# Altium footprint library node.PcbLib: 75 footprints (part 5 of 5)
Each footprint in its own frame and in the unit in brackets; x right, y up, seen from the top. Pads: shape width x height; smd on the part's side, far side on the other; paste and mask are expansions set on the pad; w line width, h text height; cw(c..) or ccw(c..) is an arc to the next point about the centre after c.
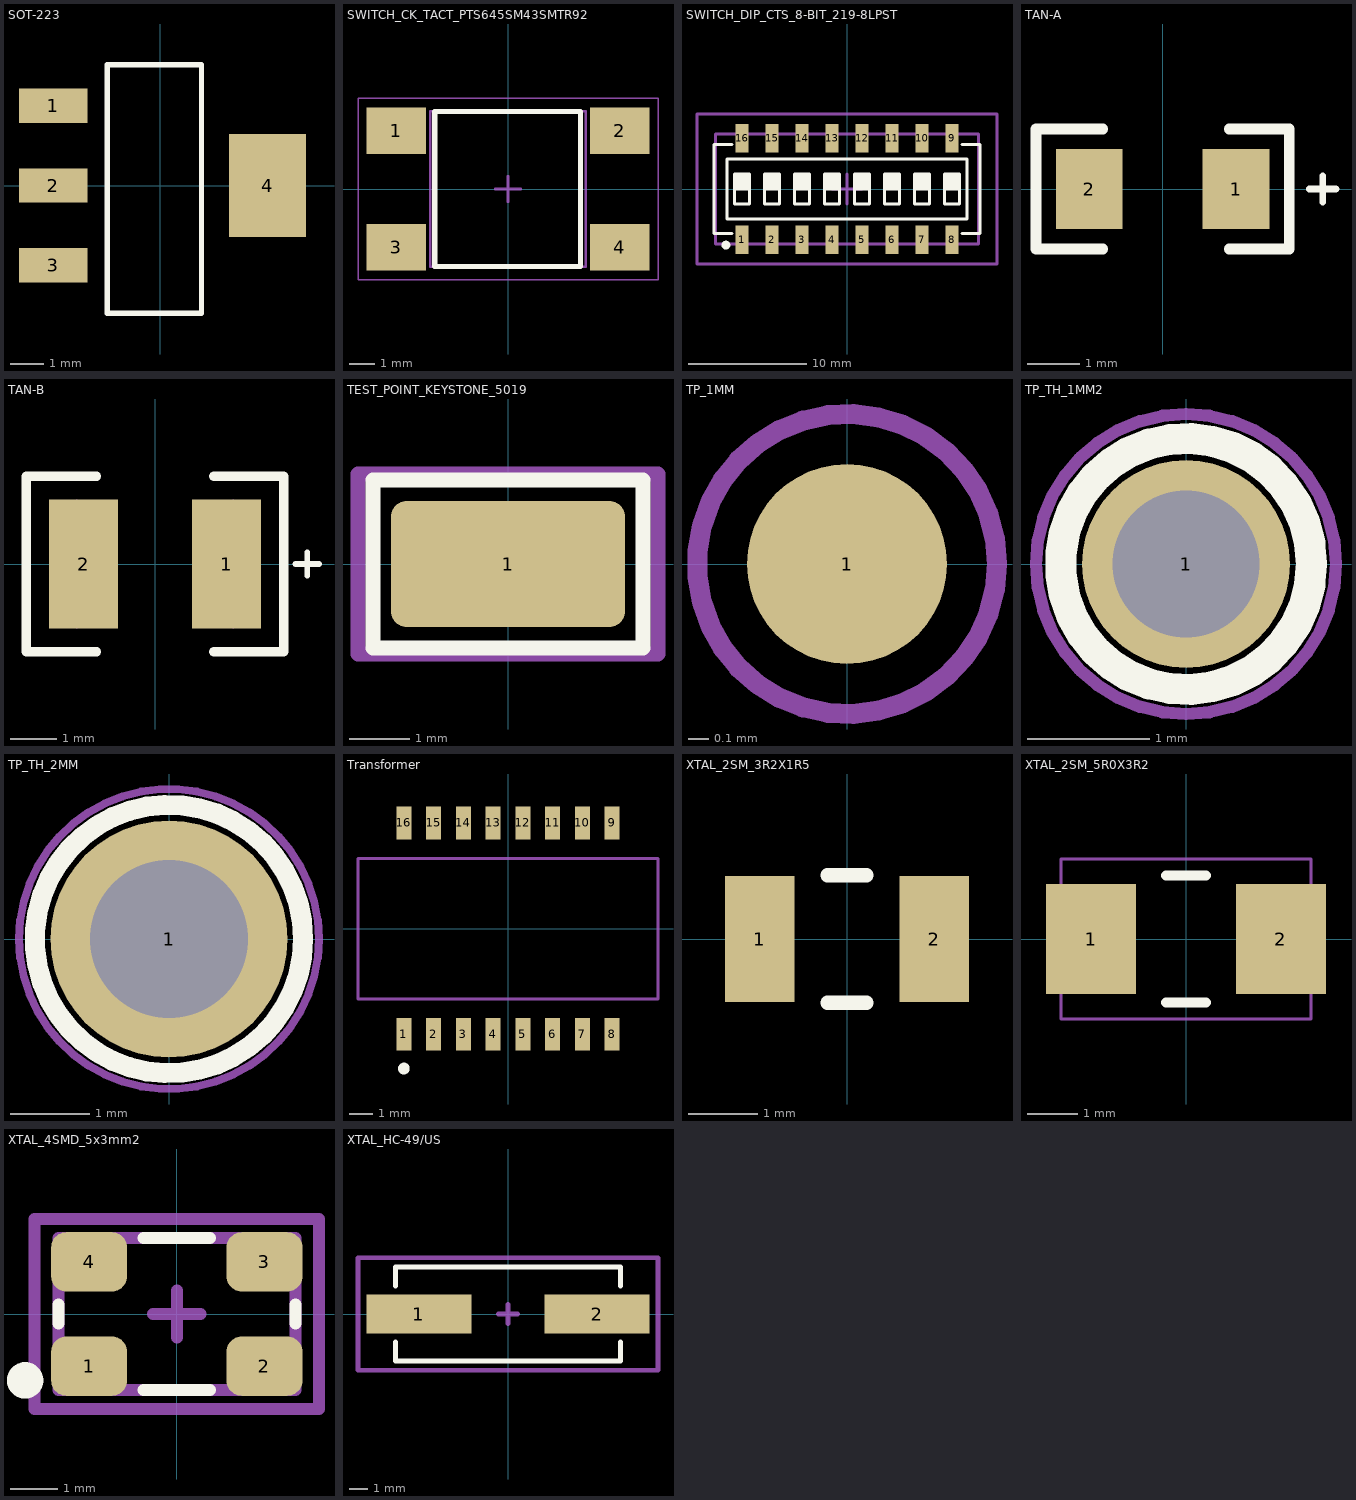
[diagram p4: the footprints below, top view; thin cyan lines are the x and y axes]

## SOT-223 [mil] "Adjustable and fixed low drop positive voltage regulator"
height 70.87
pads (4):
  rect 80x40 smd: 1(-125,93) 2(-125,0) 3(-125,-93)
  rect 90x120 smd: 4(125,0)
Top Overlay:
  lines w6: -62,-149 48,-149 48,141 -62,141 -62,-149
3D body: height 70.87, standoff 7.87, extent -83.66,-131.89 62.01,131.89

## SWITCH_CK_TACT_PTS645SM43SMTR92 [mm] "Surface Mounting Type Tact Switch, 4-Leads, Body 6x6mm, Height 4.5mm,Blue"
height 4.5
pads (4):
  rect 2.3x1.8 smd: 1(-4.325,2.25) 2(4.325,2.25) 3(-4.325,-2.25) 4(4.325,-2.25)
Top Overlay:
  lines w0.2: -2.831,-3 2.808,-3 2.808,3 -2.831,3 -2.831,-3
M13 (3D Body):
  lines w0.1: -3,-3 -3,3 3,3 3,-3 -3,-3
M15 (Courtyard):
  lines w0.05: -5.8,-3.5 5.8,-3.5 5.8,3.5 -5.8,3.5 -5.8,-3.5
  lines w0.1: -0.5,0 0.5,0 ; 0,-0.5 0,0.5
3D body: height 3.9, standoff 2.3, extent 1.359,-2.956 2.95,-1.362
3D body: height 3.9, standoff 2.3, extent -2.956,-2.951 -1.362,-1.359
3D body: height 3.9, standoff 2.3, extent 1.363,1.359 2.956,2.95
3D body: height 3.9, standoff 2.3, extent -2.951,1.363 -1.359,2.956
3D body: height 4.3, standoff 0, extent -1.75,-1.75 1.75,1.75
3D body: height 3.5, standoff 0, extent -3,-3 3,3

## SWITCH_DIP_CTS_8-BIT_219-8LPST [mm]
pads (16):
  rect 1.12x2.44 smd: 1(-8.89,-4.3) 2(-6.35,-4.3) 3(-3.81,-4.3) 4(-1.27,-4.3) 5(1.27,-4.3) 6(3.81,-4.3) 7(6.35,-4.3) 8(8.89,-4.3) 9(8.89,4.3) 10(6.35,4.3) 11(3.81,4.3) 12(1.27,4.3) 13(-1.27,4.3) 14(-3.81,4.3) 15(-6.35,4.3) 16(-8.89,4.3)
Top Overlay:
  circle w0.4: c-10.25,-4.75 r0.172
  region: 8.255,1.27 8.255,0 9.525,0 9.525,1.27
  region: 5.715,1.27 5.715,0 6.985,0 6.985,1.27
  region: 3.175,1.27 3.175,0 4.445,0 4.445,1.27
  region: 0.635,1.27 0.635,0 1.905,0 1.905,1.27
  region: -1.905,1.27 -1.905,0 -0.635,0 -0.635,1.27
  region: -4.445,1.27 -4.445,0 -3.175,0 -3.175,1.27
  region: -6.985,1.27 -6.985,0 -5.715,0 -5.715,1.27
  region: -9.525,1.27 -9.525,0 -8.255,0 -8.255,1.27
  lines w0.254: -9.75,-3.75 -11.25,-3.75 -11.25,3.75 -9.75,3.75 ; -9.525,0 -8.255,0 ; -6.985,0 -5.715,0 ; -4.445,0 -3.175,0 ; -1.905,0 -0.635,0 ; 0.635,0 1.905,0 ; 3.175,0 4.445,0 ; 5.715,0 6.985,0 ; 8.255,0 9.525,0 ; 9.75,-3.75 11.25,-3.75 11.25,3.75 9.75,3.75 ; -10.16,-2.54 -10.16,2.54 10.16,2.54 10.16,-2.54 -10.16,-2.54 ; -9.525,-1.27 -8.255,-1.27 -8.255,1.27 -9.525,1.27 -9.525,-1.27 ; -6.985,-1.27 -6.985,1.27 -5.715,1.27 -5.715,-1.27 -6.985,-1.27 ; -4.445,-1.27 -4.445,1.27 -3.175,1.27 -3.175,-1.27 -4.445,-1.27 ; -1.905,-1.27 -1.905,1.27 -0.635,1.27 -0.635,-1.27 -1.905,-1.27 ; 0.635,-1.27 0.635,1.27 1.905,1.27 1.905,-1.27 0.635,-1.27 ; 3.175,-1.27 3.175,1.27 4.445,1.27 4.445,-1.27 3.175,-1.27 ; 5.715,-1.27 5.715,1.27 6.985,1.27 6.985,-1.27 5.715,-1.27 ; 8.255,-1.27 8.255,1.27 9.525,1.27 9.525,-1.27 8.255,-1.27
M13 (3D Body):
  lines w0.254: -11.15,-4.659 11.15,-4.659 11.15,4.659 -11.15,4.659 -11.15,-4.659
M15 (Courtyard):
  lines w0.254: -1.27,0 0,0 1.27,0 ; 0,-1.27 0,1.27 ; -12.7,-6.35 12.7,-6.35 12.7,6.35 -12.7,6.35 -12.7,-6.35
3D body "74t0704_4-1825059-2.stp": height 4.45, standoff 0.01, extent -11.15,-4.659 11.15,4.659

## TAN-A [mil] "TAN Capacitor"
height 39.37
pads (2):
  rect 50x60 smd: 1(55,0) 2(-55,0)
Top Overlay:
  lines w5: 110,0 130,0 ; 120,-10 120,10
  lines w8: -45,-45 -95,-45 -95,45 -45,45 ; 50,-45 95,-45 95,45 50,45
3D body: height 39.37, standoff 0, extent -47.24,-35.43 47.24,35.43

## TAN-B [mm] "Tan Capacitor"
height 1
pads (2):
  rect 1.5x2.8 smd: 1(1.55,0) 2(-1.55,0)
Top Overlay:
  lines w0.127: 3.048,0 3.556,0 ; 3.302,-0.254 3.302,0.254
  lines w0.203: -1.27,-1.905 -2.794,-1.905 -2.794,1.905 -1.27,1.905 ; 1.27,-1.905 2.794,-1.905 2.794,1.905 1.27,1.905
M13 (3D Body):
  lines w0.1: -1.7,-1.35 -1.7,1.35 ; 1.7,-1.35 1.7,1.35
3D body: height 1, standoff 0, extent -1.763,-1.537 1.704,1.539

## TEST_POINT_KEYSTONE_5019 [mm]
pads (1):
  rrect25% 3.9x2.1 smd: 1(0,0)
Top Overlay:
  lines w0.254: -2.25,-1.4 -2.25,1.4 2.25,1.4 2.25,-1.4 -2.25,-1.4
M15 (Courtyard):
  lines w0.254: -0.5,0 0.5,0 ; 0,-0.5 0,0.5 ; -2.5,-1.5 2.5,-1.5 2.5,1.5 -2.5,1.5 -2.5,-1.5
3D body "User Library-5019.step": height 2.29, standoff 0, extent -1.905,-1.016 1.905,1.016

## TP_1MM [mm] "Testpoint, Surface Mounting, Circular, Pad Diameter 1mm"
height 1
pads (1):
  round 1 smd: 1(0,0)
M15 (Courtyard):
  circle w0.1: c0,0 r0.75

## TP_TH_1MM2 [mm] "Testpoint, Through-Hole, Hole Diameter 1.2MM"
height 1
pads (1):
  round 1.7 hole 1.2: 1(0,0)
Top Overlay:
  circle w0.254: c0,0 r1.025
M15 (Courtyard):
  circle w0.1: c0,0 r1.225
  lines w0.127: -0.5,0 0.5,0 ; 0,-0.5 0,0.5

## TP_TH_2MM [mm] "Testpoint, Through-Hole, Hole Diameter 2MM"
height 1
pads (1):
  round 3 hole 2: 1(0,0)
Top Overlay:
  circle w0.254: c0,0 r1.7
M15 (Courtyard):
  circle w0.1: c0,0 r1.9
  lines w0.127: -0.5,0 0.5,0 ; 0,-0.5 0,0.5

## Transformer [mm]
height 1
pads (16):
  rect 0.64x1.4 smd: 1(-4.445,-4.51) 2(-3.175,-4.51) 3(-1.905,-4.51) 4(-0.635,-4.51) 5(0.635,-4.51) 6(1.905,-4.51) 7(3.175,-4.51) 8(4.445,-4.51) 9(4.445,4.51) 10(3.175,4.51) 11(1.905,4.51) 12(0.635,4.51) 13(-0.635,4.51) 14(-1.905,4.51) 15(-3.175,4.51) 16(-4.445,4.51)
Top Overlay:
  circle w0.25: c-4.443,-5.969 r0.125
M13 (3D Body):
  lines w0.127: -6.4,-3 -6.4,3 6.4,3 6.4,-3 -6.4,-3
3D body: height 6, standoff 0, extent -6.4,-3 6.4,3

## XTAL_2SM_3R2X1R5 [mm] "CRYSTAL 32.768KHZ 6PF SMD 2 pads"
height 1.1
pads (2):
  rect 1x1.8 smd: 1(-1.25,0) 2(1.25,0)
Top Overlay:
  lines w0.203: -0.279,-0.914 0.279,-0.914 ; -0.279,0.914 0.279,0.914
3D body "ABS07-120.STEP": height 0.89, standoff 0, extent -1.628,-0.752 1.577,0.752

## XTAL_2SM_5R0X3R2 [mm] "CRYSTAL 25M Hz  30F SMD 2 pads"
height 1.3
pads (2):
  rect 1.8x2.2 smd: 1(-1.9,0) 2(1.9,0)
Top Overlay:
  lines w0.203: -0.4,-1.27 0.4,-1.27 ; -0.4,1.27 0.4,1.27
M13 (3D Body):
  lines w0.051: -2.5,-1.6 -2.5,1.6 2.5,1.6 2.5,-1.6 -2.5,-1.6
3D body: height 1.3, standoff 0, extent -2.5,-1.6 2.5,1.6

## XTAL_4SMD_5x3mm2 [mm]
pads (4):
  rrect50% 1.6x1.25 smd: 1(-1.85,-1.1) 2(1.85,-1.1) 3(1.85,1.1) 4(-1.85,1.1)
Top Overlay:
  circle w0.508: c-3.2,-1.4 r0.13
  lines w0.254: -2.5,-0.2 -2.5,0.2 ; -0.7,-1.6 0.7,-1.6 ; -0.7,1.6 0.7,1.6 ; 2.5,-0.2 2.5,0.2
M13 (3D Body):
  lines w0.254: -2.5,-1.6 -2.5,1.6 2.5,1.6 2.5,-1.6 -2.5,-1.6
M15 (Courtyard):
  lines w0.254: -0.5,0 0.5,0 ; 0,-0.5 0,0.5 ; -3,-2 -3,2 3,2 3,-2 -3,-2
3D body: height 0.5, standoff 0.05, extent -2.5,-1.6 2.5,1.6
3D body: height 0.85, standoff 0.4, extent -2.2,-1.3 2.2,1.3

## XTAL_HC-49/US [mm]
pads (2):
  rect 5.6x2.1 smd: 1(-4.75,0) 2(4.75,0)
Top Overlay:
  lines w0.254: -6,-1.5 -6,-2.5 6,-2.5 6,-1.5 ; -6,1.5 -6,2.5 6,2.5 6,1.5
M15 (Courtyard):
  lines w0.254: -0.5,0 0,0 0.5,0 ; 0,-0.5 0,0.5 ; -8,-3 -8,3 8,3 8,-3 -8,-3
3D body "ABLS2.STEP": height 3.31, standoff 0.05, extent -6.35,-2.349 6.35,2.35